# Altium schematic symbol library CAP - Through Hole Ceramic Capacitors.SchLib: 2 symbols
Pins are listed as number, name and electrical type; pins without a type are passive.

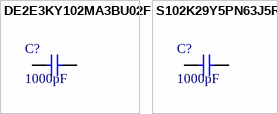
[diagram p0: symbols DE2E3KY102MA3BU02F to S102K29Y5PN63J5R]

## DE2E3KY102MA3BU02F
designator C?, comment 1000pF
CAP CER 1000PF 300VAC RADIAL; Manufacturer: Murata Electronics North America; Manufacturer Part Number: DE2E3KY102MA3BU02F; Tolerance: ±20%; Temperature Coefficient: E; Ratings: X1, Y2; Type: Safety Standard Certified Ceramic Capacitors; Voltage Rating: 300 V; Brand: Murata Electronics; Capacitance - nF: 1 nF; Capacitance - uF: 0.001 uF; Lead Diameter: 0.6 mm; Supplier 1: Digi-Key; RoHS: RoHS Compliant; Category: Capacitors; Stock 1: 1429; Pricing 1: 1=0.3, 10=0.21, 50=0.1466, 100=0.1257, 250=0.10476, 500=0.09428, 1000=0.07961, 5000=0.07123, 10000=0.06704 (USD); Packaging: Bulk; Part Status: Active; Capacitance: 1000pF; Voltage - Rated: 300VAC; Operating Temperature: -25°C ~ 85°C; Features: High Voltage; Applications: Safety; Failure Rate: *; Mounting Type: Through Hole; Package / Case: Radial, Disc; Size / Dimension: 0.276" Dia (7.00mm); Height - Seated (Max): 0.394" (10.00mm); Thickness (Max): -; Lead Spacing: 0.295" (7.50mm); Lead Style: Formed Leads; ComponentLink1URL: http://www.murata.com/~/media/webrenewal/support/library/catalog/products/capacitor/mlcc/c85e.ashx; ComponentLink1Description: http://www.murata.com/~/media/webrenewal/support/library/catalog/products/capacitor/mlcc/c85e.ashx; Supplier 2: Mouser; Stock 2: 1184; Pricing 2: 1=0.290, 10=0.172, 100=0.105, 500=0.094, 1000=0.080, 2500=0.071, 10000=0.067, 25000=0.063, 50000=0.056 (USD); Application: Safety; Diameter: 7 mm; Operating Temperature Range: - 25 C to + 85 C; Product: High Voltage Ceramic Disc Capacitors; Series: DE2; Termination Style: Radial; Thickness: 5 mm; Voltage Rating AC: 300 V; Class: X1, Y2; Dielectric: E; Maximum Operating Temperature: + 85 C; Minimum Operating Temperature: - 20 C; Standard Pack Qty: 250; Temperature Coefficient / Code: E; RoHS - Mouser: Y; Minimum Order Quantity: 1; Reeling: False; ComponentLink2URL: http://www.mouser.com/ds/2/281/L0015E-125407.pdf; ComponentLink2Description: http://www.mouser.com/ds/2/281/L0015E-125407.pdf; Supplier Part Number 1: 490-9458-ND; Supplier Part Number 2: 81-DE2E3KY102MA3BU2F
footprint DISC/D7.0/F7.5
pins: 1, 2

## S102K29Y5PN63J5R
designator C?, comment 1000pF
CAP CER 1000PF 1KV Y5P RADIAL; Manufacturer: Vishay BC Components; Manufacturer Part Number: S102K29Y5PN63J5R; Tolerance: ±10%; Voltage - Rated: 1000V (1kV); Temperature Coefficient: Y5P (B); Type: Ceramic Singlelayer DC Disc Capacitors for General Purpose Class 1, Class 2, and Class 3, 1 kVDC, 2 kVDC, 3 kVDC, 6 kVDC; Voltage Rating DC: 1 kVDC; Brand: Vishay / BC Components; Capacitance - nF: 1 nF; Capacitance - uF: 0.001 uF; Class: Class 2; Lead Diameter: 0.6 mm; Temperature Coefficient / Code: 10 %; Supplier 1: Digi-Key; Supplier Part Number 1: 1251PH-ND; RoHS: RoHS Compliant; Category: Capacitors; Stock 1: 21156; Pricing 1: 1=0.25, 10=0.168, 50=0.1008, 100=0.0851, 250=0.06944, 500=0.05824, 1000=0.05152, 5000=0.0448, 10000=0.04256 (USD); Packaging: Bulk; Part Status: Active; Capacitance: 1000pF; Operating Temperature: -30°C ~ 85°C; Features: -; Ratings: -; Applications: General Purpose; Failure Rate: -; Mounting Type: Through Hole; Package / Case: Radial, Disc; Size / Dimension: 0.295" Dia (7.50mm); Height - Seated (Max): 0.453" (11.50mm); Thickness (Max): -; Lead Spacing: 0.197" (5.00mm); Lead Style: Formed Leads - Kinked; ComponentLink1URL: http://www.vishay.com/docs/28515/sseries.pdf; ComponentLink1Description: http://www.vishay.com/docs/28515/sseries.pdf; Supplier 2: Mouser; Supplier Part Number 2: 594-S102K29Y5PN63J5R; Stock 2: 14790; Pricing 2: 1=0.250, 10=0.101, 100=0.059, 1000=0.052, 2000=0.050, 5000=0.045 (USD); Application: Safety; Diameter: 7.5 mm; Height: -; Length: -; Operating Temperature Range: - 30 C to + 85 C; Product: Ceramic Disc Capacitors; Series: S Series; Termination Style: Radial; Thickness: 4 mm; Voltage Rating: 1 kV; Dielectric: Y5P; Maximum Operating Temperature: + 85 C; Minimum Operating Temperature: - 30 C; Standard Pack Qty: 1000; RoHS - Mouser: Y; Minimum Order Quantity: 1; Reeling: False; ComponentLink2URL: http://www.mouser.com/ds/2/427/sseries-239781.pdf; ComponentLink2Description: http://www.mouser.com/ds/2/427/sseries-239781.pdf
footprint DISC/D7.0/F7.5
pins: 1, 2